# Altium footprint library PCB2.PcbLib: 37 footprints (part 3 of 3)
Each footprint in its own frame and in the unit in brackets; x right, y up, seen from the top. Pads: shape width x height; smd on the part's side, far side on the other; paste and mask are expansions set on the pad; w line width, h text height; cw(c..) or ccw(c..) is an arc to the next point about the centre after c.
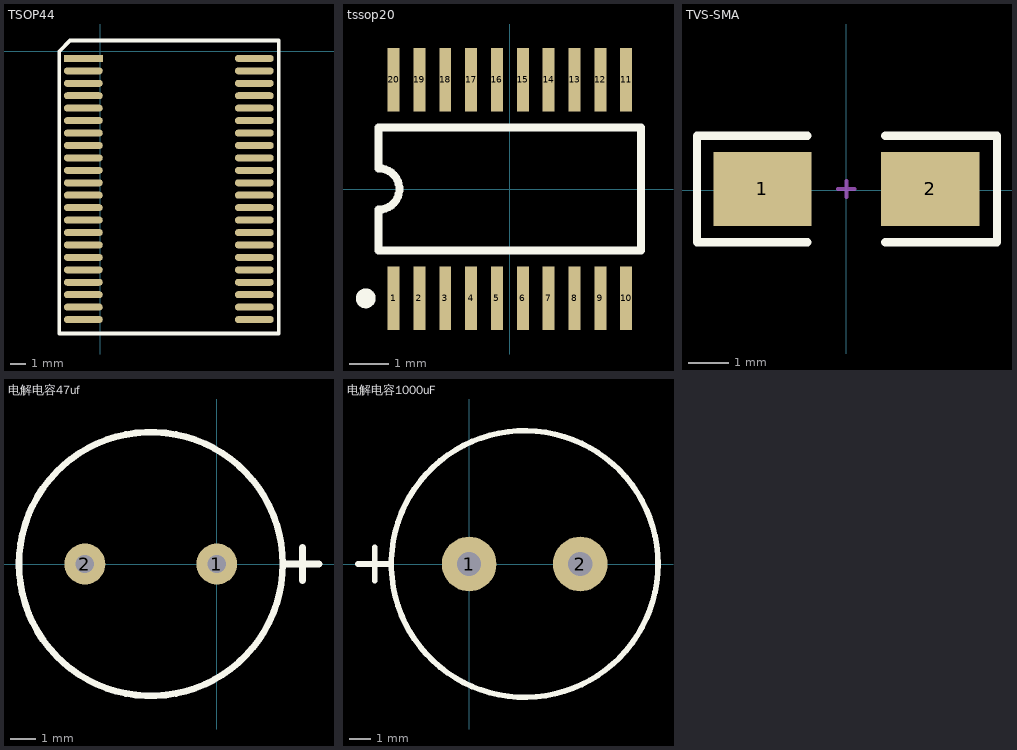
[diagram p2: the footprints below, top view; thin cyan lines are the x and y axes]

## TSOP44 [mm]
pads (44):
  rect 2.5x0.45 smd: 1(-1.1,-0.45)
  oval 2.5x0.45 smd: 2(-1.1,-1.25) 3(-1.1,-2.05) 4(-1.1,-2.85) 5(-1.1,-3.65) 6(-1.1,-4.45) 7(-1.1,-5.25) 8(-1.1,-6.05) 9(-1.1,-6.85) 10(-1.1,-7.65) 11(-1.1,-8.45) 12(-1.1,-9.25) 13(-1.1,-10.05) 14(-1.1,-10.85) 15(-1.1,-11.65) 16(-1.1,-12.45) 17(-1.1,-13.25) 18(-1.1,-14.05) 19(-1.1,-14.85) 20(-1.1,-15.65) 21(-1.1,-16.45) 22(-1.1,-17.25) 23(9.9,-17.25) 24(9.9,-16.45) 25(9.9,-15.65) 26(9.9,-14.85) 27(9.9,-14.05) 28(9.9,-13.25) 29(9.9,-12.45) 30(9.9,-11.65) 31(9.9,-10.85) 32(9.9,-10.05) 33(9.9,-9.25) 34(9.9,-8.45) 35(9.9,-7.65) 36(9.9,-6.85) 37(9.9,-6.05) 38(9.9,-5.25) 39(9.9,-4.45) 40(9.9,-3.65) 41(9.9,-2.85) 42(9.9,-2.05) 43(9.9,-1.25) 44(9.9,-0.45)
Top Overlay:
  lines w0.254: 11.473,0.66 11.473,-18.136 -2.649,-18.136 -2.649,0.007 -1.964,0.693 11.473,0.693

## tssop20 [mm] "Shrink Small Outline; 20 Leads; Body Width 4.4 mm; Pitch 0.65 mm"
height 1.1
pads (20):
  rect 0.3x1.6 smd: 1(-2.925,-2.75) 2(-2.275,-2.75) 3(-1.625,-2.75) 4(-0.975,-2.75) 5(-0.325,-2.75) 6(0.325,-2.75) 7(0.975,-2.75) 8(1.625,-2.75) 9(2.275,-2.75) 10(2.925,-2.75) 11(2.925,2.75) 12(2.275,2.75) 13(1.625,2.75) 14(0.975,2.75) 15(0.325,2.75) 16(-0.325,2.75) 17(-0.975,2.75) 18(-1.625,2.75) 19(-2.275,2.75) 20(-2.925,2.75)
Top Overlay:
  circle w0.25: c-3.625,-2.75 r0.125
  lines w0.2: -3.3,-1.55 3.3,-1.55 3.3,1.55 -3.3,1.55 -3.3,0.52 cw(c-3.3,0) -3.3,-0.52 -3.3,-1.55

## TVS-SMA [mm]
pads (2):
  rect 2.4x1.8 smd: 1(-2.05,0.025) 2(2.05,0.025)
Top Overlay:
  lines w0.2: -0.95,-1.275 -3.65,-1.275 -3.65,1.325 -0.95,1.325 ; 0.95,-1.275 3.683,-1.275 3.683,1.295 ; 0.95,1.325 3.683,1.325
Mechanical 1:
  lines w0.1: -0.2,0.025 0.2,0.025 ; 0,-0.175 0,0.225

## 电解电容47uf [mil] "5.04mm"
pads (2):
  round 62 hole 28: 1(0,0) 2(-200,0)
Top Overlay:
  circle w10: c-100,0 r200
  lines w10: 100,0 155,0 ; 130,-25 130,25

## 电解电容1000uF [mm]
pads (2):
  round 2.5 hole 1.1: 1(0,0) 2(5.08,0)
Top Overlay:
  circle w0.254: c2.54,0 r6.096
  lines w0.254: -5.08,0 -3.556,0 ; -4.318,-0.762 -4.318,0.762